# Altium integrated library TI Amplifiers and Linear Special Function Amplifier.IntLib: 708 symbols (part 41 of 47)
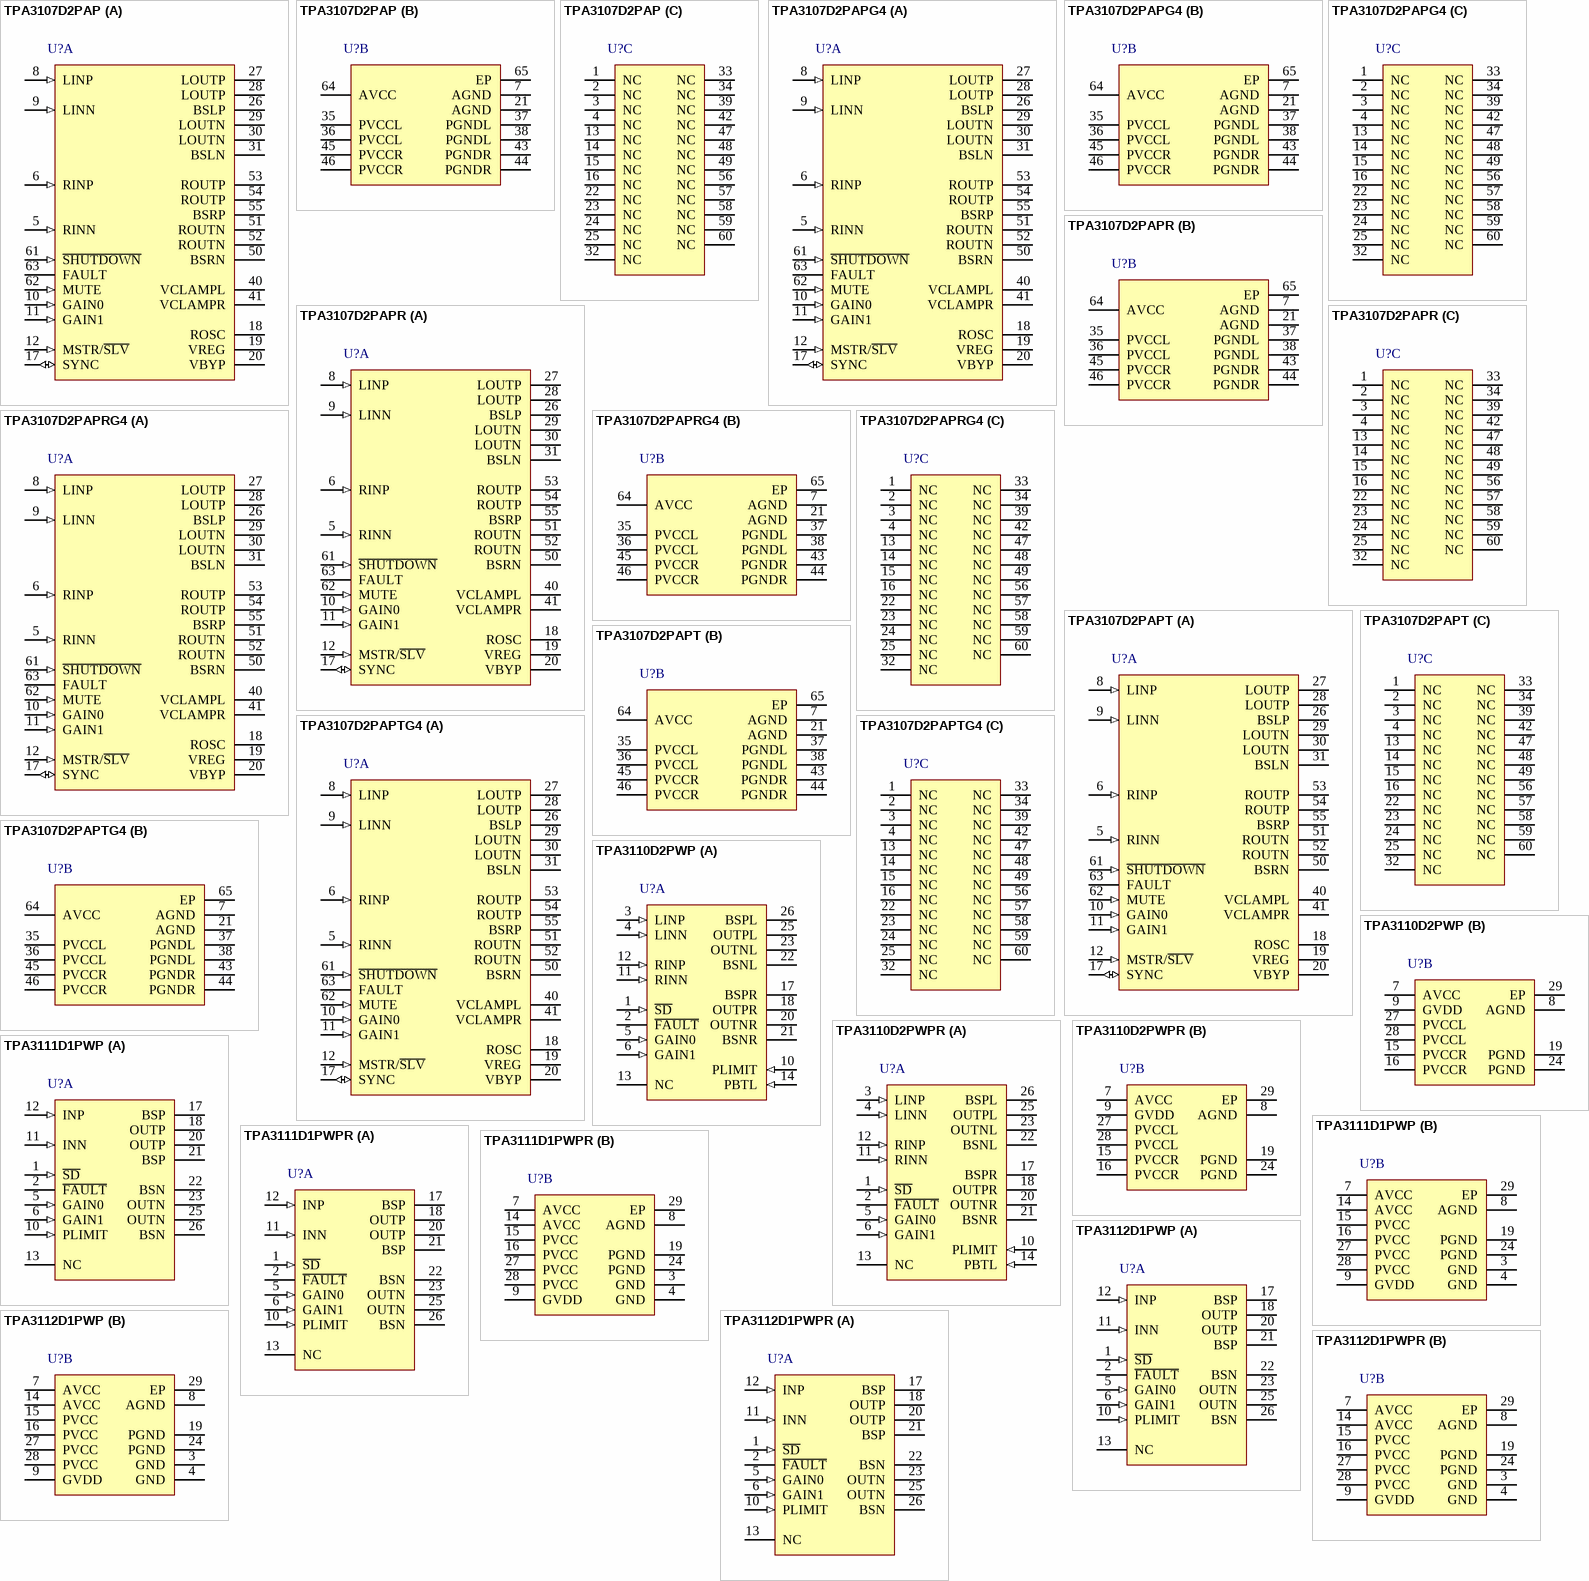
[diagram p79: symbols TPA3107D2PAP to TPA3112D1PWPR]

## TPA3112D1PWP
designator U?
25 W Filter-Free Mono Class-D Audio Amplifier with SpeakerGuard(TM), -40 to 85 degC, 28-pin SOP (PWP28), Green (RoHS & no Sb/Br); Manufacturer: Texas Instruments; PartNumber: TPA3112D1PWP; Analog Supply Max [V]: 26; Analog Supply Min [V]: 8; Input Type: Analog; Max. Number of Speaker Outputs: 1; SubFamily: Mid/High-Power Amplifier; DatasheetVersion: SLOS654C; PackageVersion: 4073225-6/I, 05/2011; PackageReference: PWP28-5720X1950TP; PackageDescription: 28-Pin Plastic Small Outline, Body 4.4 x 9.7 mm, Pitch 0.65 mm; Supplier 1: Digi-Key; Supplier Part Number 1: 296-25242-5-ND; Supplier 2: Farnell; Supplier Part Number 2: 2112567; Supplier 3: Newark; Supplier Part Number 3: 32R7817; Supplier 4: Mouser; Supplier Part Number 4: 595-TPA3112D1PWP; Eco-Plan: Green (RoHS & no Sb/Br); Power Stage Supply Min(V): 8; Mounting Technology: Surface Mount; Code_JEDEC: MO-153; ComponentLink1Description: Manufacturer URL; ComponentLink1URL: http://www.ti.com/; ComponentLink2Description: Datasheet; ComponentLink2URL: http://www.ti.com/general/docs/lit/getliterature.tsp?genericPartNumber=TPA3112D1&fileType=pdf; ComponentLink3Description: Package Specification; ComponentLink3URL: http://www.ti.com/litv/pdf/mpds373
footprint TI-PWP28-5720X1950TP_N (SOP, 28-Leads, Body 9.8x4.5mm, Pitch 0.65mm, Thermal Pad 6.17x2.4mm, IPC Medium Density)
footprint TI-PWP28-5720X1950TP_L (SOP, 28-Leads, Body 9.8x4.5mm, Pitch 0.65mm, Thermal Pad 6.17x2.4mm, IPC High Density)
footprint TI-PWP28-5720X1950TP_M (SOP, 28-Leads, Body 9.8x4.5mm, Pitch 0.65mm, Thermal Pad 6.17x2.4mm, IPC Low Density)
part A pins: 1 ~{SD} (in) "Shutdown logic input for audio amp(LOW = outputs Hi-Z, HIGH = outputs enabled). TTL logic levels with compliance to AVCC.", 2 ~{FAULT} (oc) "Open drain output used to display short circuit or dc detect fault status. Voltage compliant to AVCC. Short circuit faults can be set to auto-recovery by connecting F\A\U\L\T\ pin to S\D\ pin. Otherwise bothe short circuit (See Datasheet)", 5 GAIN0 (in) "Gain select least significant bit. TTL logic levels with compliance to AVCC.", 6 GAIN1 (in) "Gain select most significant bit. TTL logic levels with compliance to AVCC.", 10 PLIMIT (in) "Power limit level adjust. Connect directly to GVDD pin for no power limiting. Add a 1uF cap to ground at this pin.", 11 INN (in) "Negative audio input. Biased at 3V.", 12 INP (in) "Positive audio input. Biased at 3V.", 13 NC "Not connected", 17 BSP "Bootstrap I/O for positive high-side FET.", 18 OUTP (hiz) "Class-D H-bridge positive output.", 20 OUTP (hiz) "Class-D H-bridge positive output.", 21 BSP "Bootstrap I/O for positive high-side FET.", 22 BSN "Bootstrap I/O for negative high-side FET.", 23 OUTN (hiz) "Class-D H-bridge negative output.", 25 OUTN (hiz) "Class-D H-bridge negative output.", 26 BSN "Bootstrap I/O for negative high-side FET."
part B pins: 3 GND (power) "Connect to local ground", 4 GND (power) "Connect to local ground", 7 AVCC (power) "Analog supply.", 8 AGND (power) "Analog supply ground. Connect to the thermal pad.", 9 GVDD (power) "High-side FET gate drive supply. Nominal voltage is 7V. May also be used as supply for PLILMIT divider. Add a 1uF cap to ground at this pin.", 14 AVCC (power) "Connect AVCC supply to this pin", 15 PVCC (power) "Power supply for H-bridge. PVCC pins are also connected internally.", 16 PVCC (power) "Power supply for H-bridge. PVCC pins are also connected internally.", 19 PGND (power) "Power ground for the H-bridges.", 24 PGND (power) "Power ground for the H-bridges.", 27 PVCC (power) "Power supply for H-bridge. PVCC pins are also connected internally.", 28 PVCC (power) "Power supply for H-bridge. PVCC pins are also connected internally.", 29 EP (power)

## TPA3112D1PWPR
designator U?
25 W Filter-Free Mono Class-D Audio Amplifier with SpeakerGuard(TM), -40 to 85 degC, 28-pin SOP (PWP28), Green (RoHS & no Sb/Br); Manufacturer: Texas Instruments; PartNumber: TPA3112D1PWPR; Analog Supply Max [V]: 26; Analog Supply Min [V]: 8; Input Type: Analog; Max. Number of Speaker Outputs: 1; SubFamily: Mid/High-Power Amplifier; DatasheetVersion: SLOS654C; PackageVersion: 4073225-6/I, 05/2011; PackageReference: PWP28-5720X1950TP; PackageDescription: 28-Pin Plastic Small Outline, Body 4.4 x 9.7 mm, Pitch 0.65 mm; Supplier 1: Digi-Key; Supplier Part Number 1: 296-25158-2-ND; Supplier 2: Digi-Key; Supplier Part Number 2: 296-25158-1-ND; Supplier 3: Digi-Key; Supplier Part Number 3: 296-25158-6-ND; Supplier 4: Newark; Supplier Part Number 4: 50R8088; Supplier 5: Mouser; Supplier Part Number 5: 595-TPA3112D1PWPR; Eco-Plan: Green (RoHS & no Sb/Br); Power Stage Supply Min(V): 8; Mounting Technology: Surface Mount; Code_JEDEC: MO-153; ComponentLink1Description: Manufacturer URL; ComponentLink1URL: http://www.ti.com/; ComponentLink2Description: Datasheet; ComponentLink2URL: http://www.ti.com/general/docs/lit/getliterature.tsp?genericPartNumber=TPA3112D1&fileType=pdf; ComponentLink3Description: Package Specification; ComponentLink3URL: http://www.ti.com/litv/pdf/mpds373
footprint TI-PWP28-5720X1950TP_N (SOP, 28-Leads, Body 9.8x4.5mm, Pitch 0.65mm, Thermal Pad 6.17x2.4mm, IPC Medium Density)
footprint TI-PWP28-5720X1950TP_L (SOP, 28-Leads, Body 9.8x4.5mm, Pitch 0.65mm, Thermal Pad 6.17x2.4mm, IPC High Density)
footprint TI-PWP28-5720X1950TP_M (SOP, 28-Leads, Body 9.8x4.5mm, Pitch 0.65mm, Thermal Pad 6.17x2.4mm, IPC Low Density)
part A pins: 1 ~{SD} (in) "Shutdown logic input for audio amp(LOW = outputs Hi-Z, HIGH = outputs enabled). TTL logic levels with compliance to AVCC.", 2 ~{FAULT} (oc) "Open drain output used to display short circuit or dc detect fault status. Voltage compliant to AVCC. Short circuit faults can be set to auto-recovery by connecting F\A\U\L\T\ pin to S\D\ pin. Otherwise bothe short circuit (See Datasheet)", 5 GAIN0 (in) "Gain select least significant bit. TTL logic levels with compliance to AVCC.", 6 GAIN1 (in) "Gain select most significant bit. TTL logic levels with compliance to AVCC.", 10 PLIMIT (in) "Power limit level adjust. Connect directly to GVDD pin for no power limiting. Add a 1uF cap to ground at this pin.", 11 INN (in) "Negative audio input. Biased at 3V.", 12 INP (in) "Positive audio input. Biased at 3V.", 13 NC "Not connected", 17 BSP "Bootstrap I/O for positive high-side FET.", 18 OUTP (hiz) "Class-D H-bridge positive output.", 20 OUTP (hiz) "Class-D H-bridge positive output.", 21 BSP "Bootstrap I/O for positive high-side FET.", 22 BSN "Bootstrap I/O for negative high-side FET.", 23 OUTN (hiz) "Class-D H-bridge negative output.", 25 OUTN (hiz) "Class-D H-bridge negative output.", 26 BSN "Bootstrap I/O for negative high-side FET."
part B pins: 3 GND (power) "Connect to local ground", 4 GND (power) "Connect to local ground", 7 AVCC (power) "Analog supply.", 8 AGND (power) "Analog supply ground. Connect to the thermal pad.", 9 GVDD (power) "High-side FET gate drive supply. Nominal voltage is 7V. May also be used as supply for PLILMIT divider. Add a 1uF cap to ground at this pin.", 14 AVCC (power) "Connect AVCC supply to this pin", 15 PVCC (power) "Power supply for H-bridge. PVCC pins are also connected internally.", 16 PVCC (power) "Power supply for H-bridge. PVCC pins are also connected internally.", 19 PGND (power) "Power ground for the H-bridges.", 24 PGND (power) "Power ground for the H-bridges.", 27 PVCC (power) "Power supply for H-bridge. PVCC pins are also connected internally.", 28 PVCC (power) "Power supply for H-bridge. PVCC pins are also connected internally.", 29 EP (power)

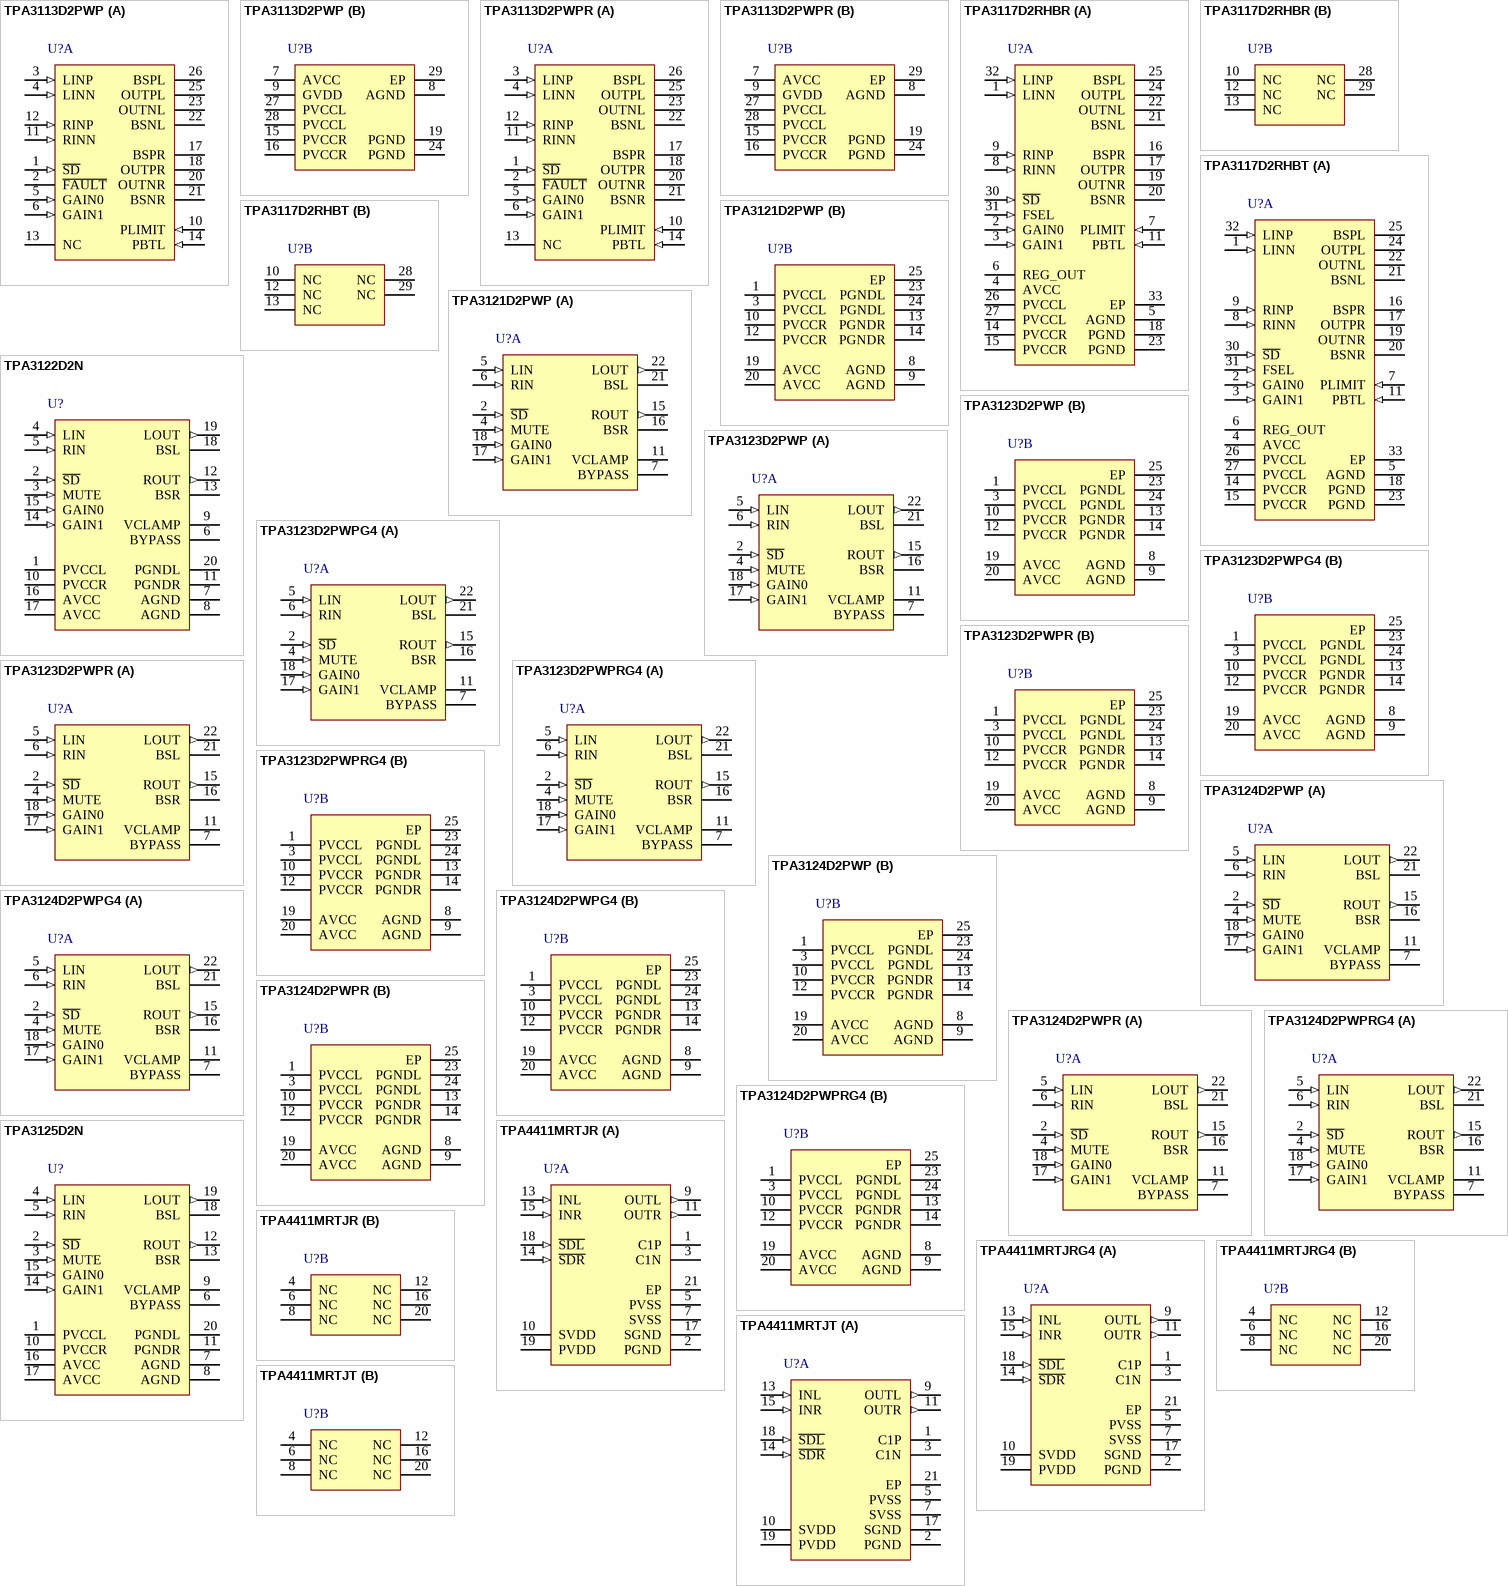
[diagram p35: symbols TPA3113D2PWP to TPA4411MRTJT]

## TPA3113D2PWP
designator U?
6 W Stereo Class-D Audio Power Amplifier with SpeakerGuard(TM), -40 to 85 degC, 28-pin SOP (PWP28), Green (RoHS & no Sb/Br); Manufacturer: Texas Instruments; PartNumber: TPA3113D2PWP; Analog Supply Max [V]: 26; Analog Supply Min [V]: 8; Input Type: Analog; Max. Number of Speaker Outputs: 2; SubFamily: Mid/High-Power Amplifier; DatasheetVersion: SLOS650E; PackageVersion: 4073225-6/I, 05/2011; PackageReference: PWP28-5720X1950TP; PackageDescription: 28-Pin Plastic Small Outline, Body 4.4 x 9.7 mm, Pitch 0.65 mm; Supplier 1: Digi-Key; Supplier Part Number 1: 296-25127-5-ND; Supplier 2: Farnell; Supplier Part Number 2: 1762987; Supplier 3: Newark; Supplier Part Number 3: 26R5218; Supplier 4: Mouser; Supplier Part Number 4: 595-TPA3113D2PWP; Eco-Plan: Green (RoHS & no Sb/Br); Power Stage Supply Min(V): 8; Mounting Technology: Surface Mount; Code_JEDEC: MO-153; ComponentLink1Description: Manufacturer URL; ComponentLink1URL: http://www.ti.com/; ComponentLink2Description: Datasheet; ComponentLink2URL: http://www.ti.com/general/docs/lit/getliterature.tsp?genericPartNumber=TPA3113D2&fileType=pdf; ComponentLink3Description: Package Specification; ComponentLink3URL: http://www.ti.com/litv/pdf/mpds373
footprint TI-PWP28-5720X1950TP_N (SOP, 28-Leads, Body 9.8x4.5mm, Pitch 0.65mm, Thermal Pad 6.17x2.4mm, IPC Medium Density)
footprint TI-PWP28-5720X1950TP_L (SOP, 28-Leads, Body 9.8x4.5mm, Pitch 0.65mm, Thermal Pad 6.17x2.4mm, IPC High Density)
footprint TI-PWP28-5720X1950TP_M (SOP, 28-Leads, Body 9.8x4.5mm, Pitch 0.65mm, Thermal Pad 6.17x2.4mm, IPC Low Density)
part A pins: 1 ~{SD} (in) "Shutdown logic input for audio amp (LOW = outputs Hi-Z, HIGH = outputs enabled). TTL logic levels with compliance to AVCC.", 2 ~{FAULT} (oc) "Open drain output used to display short circuit or dc detect fault status. Voltage compliant to AVCC. Short circuit faults can be set to auto-recovery by connecting F\A\U\L\T\ pin to S\D\ pin. Otherwise, both short circuit (See Datasheet)", 3 LINP (in) "Positive audio input for left channel. Biased at 3V.", 4 LINN (in) "Negative audio input for left channel. Biased at 3V.", 5 GAIN0 (in) "Gain select least significant bit. TTL logic levels with compliance to AVCC.", 6 GAIN1 (in) "Gain select most significant bit. TTL logic levels with compliance to AVCC.", 10 PLIMIT (in) "Power limit level adjust. Connect a resistor divider from GVDD to GND to set power limit. Connect directly to GVDD for no power limit", 11 RINN (in) "Negative audio input for right channel. Biased at 3V.", 12 RINP (in) "Positive audio input for right channel. Biased at 3V.", 13 NC "Not connected", 14 PBTL (in) "Parallel BTL mode switch", 17 BSPR "Bootstrap I/O for right channel, positive high-side FET.", 18 OUTPR (hiz) "Class-D H-bridge positive output for right channel.", 20 OUTNR (hiz) "Class-D H-bridge negative output for right channel.", 21 BSNR "Bootstrap I/O for right channel, negative high-side FET.", 22 BSNL "Bootstrap I/O for left channel, negative high-side FET.", 23 OUTNL (hiz) "Class-D H-bridge negative output for left channel.", 25 OUTPL (hiz) "Class-D H-bridge positive output for left channel.", 26 BSPL "Bootstrap I/O for left channel, positive high-side FET."
part B pins: 7 AVCC (power) "Analog supply", 8 AGND (power) "Analog signal ground. Connect to the thermal pad.", 9 GVDD (power) "High-side FET gate drive supply. Nominal voltage is 7V. Also should be used as supply for PLIMIT function", 15 PVCCR (power) "Power supply for right channel H-bridge. Right channel and left channel power supply inputs are connect internally", 16 PVCCR (power) "Power supply for right channel H-bridge. Right channel and left channel power supply inputs are connect internally.", 19 PGND (power) "Power ground for the H-bridges.", 24 PGND (power) "Power ground for the H-bridges.", 27 PVCCL (power) "Power supply for left channel H-bridge. Right channel and left channel power supply inputs are connect internally", 28 PVCCL (power) "Power supply for left channel H-bridge. Right channel and left channel power supply inputs are connect internally", 29 EP (power)

## TPA3113D2PWPR
designator U?
6 W Stereo Class-D Audio Power Amplifier with SpeakerGuard(TM), -40 to 85 degC, 28-pin SOP (PWP28), Green (RoHS & no Sb/Br); Manufacturer: Texas Instruments; PartNumber: TPA3113D2PWPR; Analog Supply Max [V]: 26; Analog Supply Min [V]: 8; Input Type: Analog; Max. Number of Speaker Outputs: 2; SubFamily: Mid/High-Power Amplifier; DatasheetVersion: SLOS650E; PackageVersion: 4073225-6/I, 05/2011; PackageReference: PWP28-5720X1950TP; PackageDescription: 28-Pin Plastic Small Outline, Body 4.4 x 9.7 mm, Pitch 0.65 mm; Supplier 1: Digi-Key; Supplier Part Number 1: 296-25122-2-ND; Supplier 2: Digi-Key; Supplier Part Number 2: 296-25122-1-ND; Supplier 3: Digi-Key; Supplier Part Number 3: 296-25122-6-ND; Supplier 4: Newark; Supplier Part Number 4: 50R8089; Supplier 5: Mouser; Supplier Part Number 5: 595-TPA3113D2PWPR; Eco-Plan: Green (RoHS & no Sb/Br); Power Stage Supply Min(V): 8; Mounting Technology: Surface Mount; Code_JEDEC: MO-153; ComponentLink1Description: Manufacturer URL; ComponentLink1URL: http://www.ti.com/; ComponentLink2Description: Datasheet; ComponentLink2URL: http://www.ti.com/general/docs/lit/getliterature.tsp?genericPartNumber=TPA3113D2&fileType=pdf; ComponentLink3Description: Package Specification; ComponentLink3URL: http://www.ti.com/litv/pdf/mpds373
footprint TI-PWP28-5720X1950TP_N (SOP, 28-Leads, Body 9.8x4.5mm, Pitch 0.65mm, Thermal Pad 6.17x2.4mm, IPC Medium Density)
footprint TI-PWP28-5720X1950TP_L (SOP, 28-Leads, Body 9.8x4.5mm, Pitch 0.65mm, Thermal Pad 6.17x2.4mm, IPC High Density)
footprint TI-PWP28-5720X1950TP_M (SOP, 28-Leads, Body 9.8x4.5mm, Pitch 0.65mm, Thermal Pad 6.17x2.4mm, IPC Low Density)
part A pins: 1 ~{SD} (in) "Shutdown logic input for audio amp (LOW = outputs Hi-Z, HIGH = outputs enabled). TTL logic levels with compliance to AVCC.", 2 ~{FAULT} (oc) "Open drain output used to display short circuit or dc detect fault status. Voltage compliant to AVCC. Short circuit faults can be set to auto-recovery by connecting F\A\U\L\T\ pin to S\D\ pin. Otherwise, both short circuit (See Datasheet)", 3 LINP (in) "Positive audio input for left channel. Biased at 3V.", 4 LINN (in) "Negative audio input for left channel. Biased at 3V.", 5 GAIN0 (in) "Gain select least significant bit. TTL logic levels with compliance to AVCC.", 6 GAIN1 (in) "Gain select most significant bit. TTL logic levels with compliance to AVCC.", 10 PLIMIT (in) "Power limit level adjust. Connect a resistor divider from GVDD to GND to set power limit. Connect directly to GVDD for no power limit", 11 RINN (in) "Negative audio input for right channel. Biased at 3V.", 12 RINP (in) "Positive audio input for right channel. Biased at 3V.", 13 NC "Not connected", 14 PBTL (in) "Parallel BTL mode switch", 17 BSPR "Bootstrap I/O for right channel, positive high-side FET.", 18 OUTPR (hiz) "Class-D H-bridge positive output for right channel.", 20 OUTNR (hiz) "Class-D H-bridge negative output for right channel.", 21 BSNR "Bootstrap I/O for right channel, negative high-side FET.", 22 BSNL "Bootstrap I/O for left channel, negative high-side FET.", 23 OUTNL (hiz) "Class-D H-bridge negative output for left channel.", 25 OUTPL (hiz) "Class-D H-bridge positive output for left channel.", 26 BSPL "Bootstrap I/O for left channel, positive high-side FET."
part B pins: 7 AVCC (power) "Analog supply", 8 AGND (power) "Analog signal ground. Connect to the thermal pad.", 9 GVDD (power) "High-side FET gate drive supply. Nominal voltage is 7V. Also should be used as supply for PLIMIT function", 15 PVCCR (power) "Power supply for right channel H-bridge. Right channel and left channel power supply inputs are connect internally", 16 PVCCR (power) "Power supply for right channel H-bridge. Right channel and left channel power supply inputs are connect internally.", 19 PGND (power) "Power ground for the H-bridges.", 24 PGND (power) "Power ground for the H-bridges.", 27 PVCCL (power) "Power supply for left channel H-bridge. Right channel and left channel power supply inputs are connect internally", 28 PVCCL (power) "Power supply for left channel H-bridge. Right channel and left channel power supply inputs are connect internally", 29 EP (power)

## TPA3117D2RHBR
designator U?
15 W Filter-Free Stereo Class-D Amplifier, -40 to 85 degC, 32-pin QFN (RHB32), Green (RoHS & no Sb/Br); Manufacturer: Texas Instruments; PartNumber: TPA3117D2RHBR; Analog Supply Max [V]: 26; Analog Supply Min [V]: 8; Input Type: Analog; Max. Number of Speaker Outputs: 2; SubFamily: Mid/High-Power Amplifier; DatasheetVersion: SLOS672; PackageVersion: 4204326/D, 06/2011; PackageReference: RHB32-3450X3450TP; PackageDescription: 32-Pin Plastic Flat Pack, Body 5 x 5 mm, Pitch 0.5 mm; Supplier 1: Digi-Key; Supplier Part Number 1: TPA3117D2RHBR-ND; Supplier 2: Mouser; Supplier Part Number 2: 595-TPA3117D2RHBR; Eco-Plan: Green (RoHS & no Sb/Br); Power Stage Supply Min(V): 8; Mounting Technology: Surface Mount; Code_JEDEC: MO-220; ComponentLink1Description: Manufacturer URL; ComponentLink1URL: http://www.ti.com/; ComponentLink2Description: Datasheet; ComponentLink2URL: http://www.ti.com/general/docs/lit/getliterature.tsp?genericPartNumber=TPA3117D2&fileType=pdf; ComponentLink3Description: Package Specification; ComponentLink3URL: http://www.ti.com/lit/ml/mpqf130c/mpqf130c.pdf
footprint TI-RHB32-3450X3450TP_V (QFN, 32-Leads, Body 5x5mm, Pitch 0.5mm, Thermal Pad 3.45x3.45mm)
part A pins: 1 LINN (in) "Negative audio input for left channel. Biased at 3V.", 2 GAIN0 (in) "Gain select least significant bit. TTL logic levels with compliance to AVCC.", 3 GAIN1 (in) "Gain select most significant bit. TTL logic levels with compliance to AVCC.", 4 AVCC (power) "Analog supply", 5 AGND (power) "Analog signal ground. Connect to the thermal pad.", 6 REG_OUT (power) "5V regulated output. Connect 2.2uF to AGND after the series 10 ohm resistor.", 7 PLIMIT (in) "Power limit level adjust. Connect a resistor divider from REG_OUT to AGND to set power limit. Connect directly to REG_OUT for no power limit.", 8 RINN (in) "Negative audio input for right channel. Biased at 3V.", 9 RINP (in) "Positive audio input for right channel. Biased at 3V.", 11 PBTL (in) "Parallel BTL mode switch (low = BTL mode, high = PBTL mode)", 14 PVCCR (power) "Power supply for right channel H-bridge. Right channel and left channel power supply inputs are connected internally. PVCCR and PVCCL must be connected together on the PCB.", 15 PVCCR (power) "Power supply for right channel H-bridge. Right channel and left channel power supply inputs are connected internally. PVCCR and PVCCL must be connected together on the PCB.", 16 BSPR "Bootstrap I/O for right channel, positive high-side FET.", 17 OUTPR (hiz) "Class-D H-bridge positive output for right channel.", 18 PGND (power) "Power ground for the H-bridges.", 19 OUTNR (hiz) "Class-D H-bridge negative output for right channel.", 20 BSNR "Bootstrap I/O for right channel, negative high-side FET.", 21 BSNL "Bootstrap I/O for left channel, negative high-side FET.", 22 OUTNL (hiz) "Class-D H-bridge negative output for left channel.", 23 PGND (power) "Power ground for the H-bridges.", 24 OUTPL (hiz) "Class-D H-bridge positive output for left channel.", 25 BSPL "Bootstrap I/O for left channel, positive high-side FET.", 26 PVCCL (power) "Power supply for left channel H-bridge. Right channel and left channel power supply inputs are connected internally. PVCCR and PVCCL must be connected together on the PCB.", 27 PVCCL (power) "Power supply for left channel H-bridge. Right channel and left channel power supply inputs are connected internally. PVCCR and PVCCL must be connected together on the PCB.", 30 ~{SD} (in) "Shutdown logic input for audio amp (LOW = outputs Hi-Z, HIGH = outputs enabled). TTL logic levels with compliance to AVCC.", 31 FSEL (in) "Frequency select input pin (low = 300kHz, high = 400kHz)", 32 LINP (in) "Positive audio input for left channel. Biased at 3V.", 33 EP (power)
part B pins: 10 NC "Not connected", 12 NC "Not connected", 13 NC "Not connected", 28 NC "Not connected", 29 NC "Not connected"

## TPA3117D2RHBT
designator U?
15 W Filter-Free Stereo Class-D Amplifier, -40 to 85 degC, 32-pin QFN (RHB32), Green (RoHS & no Sb/Br); Manufacturer: Texas Instruments; PartNumber: TPA3117D2RHBT; Analog Supply Max [V]: 26; Analog Supply Min [V]: 8; Input Type: Analog; Max. Number of Speaker Outputs: 2; SubFamily: Mid/High-Power Amplifier; DatasheetVersion: SLOS672; PackageVersion: 4204326/D, 06/2011; PackageReference: RHB32-3450X3450TP; PackageDescription: 32-Pin Plastic Flat Pack, Body 5 x 5 mm, Pitch 0.5 mm; Supplier 1: Digi-Key; Supplier Part Number 1: 296-27938-2-ND; Supplier 2: Digi-Key; Supplier Part Number 2: 296-27938-1-ND; Supplier 3: Digi-Key; Supplier Part Number 3: 296-27938-6-ND; Supplier 4: Newark; Supplier Part Number 4: 13T5936; Supplier 5: Mouser; Supplier Part Number 5: 595-TPA3117D2RHBT; Eco-Plan: Green (RoHS & no Sb/Br); Power Stage Supply Min(V): 8; Mounting Technology: Surface Mount; Code_JEDEC: MO-220; ComponentLink1Description: Manufacturer URL; ComponentLink1URL: http://www.ti.com/; ComponentLink2Description: Datasheet; ComponentLink2URL: http://www.ti.com/general/docs/lit/getliterature.tsp?genericPartNumber=TPA3117D2&fileType=pdf; ComponentLink3Description: Package Specification; ComponentLink3URL: http://www.ti.com/lit/ml/mpqf130c/mpqf130c.pdf
footprint TI-RHB32-3450X3450TP_V (QFN, 32-Leads, Body 5x5mm, Pitch 0.5mm, Thermal Pad 3.45x3.45mm)
part A pins: 1 LINN (in) "Negative audio input for left channel. Biased at 3V.", 2 GAIN0 (in) "Gain select least significant bit. TTL logic levels with compliance to AVCC.", 3 GAIN1 (in) "Gain select most significant bit. TTL logic levels with compliance to AVCC.", 4 AVCC (power) "Analog supply", 5 AGND (power) "Analog signal ground. Connect to the thermal pad.", 6 REG_OUT (power) "5V regulated output. Connect 2.2uF to AGND after the series 10 ohm resistor.", 7 PLIMIT (in) "Power limit level adjust. Connect a resistor divider from REG_OUT to AGND to set power limit. Connect directly to REG_OUT for no power limit.", 8 RINN (in) "Negative audio input for right channel. Biased at 3V.", 9 RINP (in) "Positive audio input for right channel. Biased at 3V.", 11 PBTL (in) "Parallel BTL mode switch (low = BTL mode, high = PBTL mode)", 14 PVCCR (power) "Power supply for right channel H-bridge. Right channel and left channel power supply inputs are connected internally. PVCCR and PVCCL must be connected together on the PCB.", 15 PVCCR (power) "Power supply for right channel H-bridge. Right channel and left channel power supply inputs are connected internally. PVCCR and PVCCL must be connected together on the PCB.", 16 BSPR "Bootstrap I/O for right channel, positive high-side FET.", 17 OUTPR (hiz) "Class-D H-bridge positive output for right channel.", 18 PGND (power) "Power ground for the H-bridges.", 19 OUTNR (hiz) "Class-D H-bridge negative output for right channel.", 20 BSNR "Bootstrap I/O for right channel, negative high-side FET.", 21 BSNL "Bootstrap I/O for left channel, negative high-side FET.", 22 OUTNL (hiz) "Class-D H-bridge negative output for left channel.", 23 PGND (power) "Power ground for the H-bridges.", 24 OUTPL (hiz) "Class-D H-bridge positive output for left channel.", 25 BSPL "Bootstrap I/O for left channel, positive high-side FET.", 26 PVCCL (power) "Power supply for left channel H-bridge. Right channel and left channel power supply inputs are connected internally. PVCCR and PVCCL must be connected together on the PCB.", 27 PVCCL (power) "Power supply for left channel H-bridge. Right channel and left channel power supply inputs are connected internally. PVCCR and PVCCL must be connected together on the PCB.", 30 ~{SD} (in) "Shutdown logic input for audio amp (LOW = outputs Hi-Z, HIGH = outputs enabled). TTL logic levels with compliance to AVCC.", 31 FSEL (in) "Frequency select input pin (low = 300kHz, high = 400kHz)", 32 LINP (in) "Positive audio input for left channel. Biased at 3V.", 33 EP (power)
part B pins: 10 NC "Not connected", 12 NC "Not connected", 13 NC "Not connected", 28 NC "Not connected", 29 NC "Not connected"

## TPA3121D2PWP
designator U?
15 W Stereo Class-D Audio Power Amplifier with SE Outputs, -40 to 85 degC, 24-pin SOP (PWP24), Green (RoHS & no Sb/Br); Manufacturer: Texas Instruments; PartNumber: TPA3121D2PWP; Analog Supply Max [V]: 26; Analog Supply Min [V]: 10; Input Type: Analog; Max. Number of Speaker Outputs: 2; SubFamily: Mid/High-Power Amplifier; DatasheetVersion: SLOS537A; PackageVersion: 4073225-5/I, 05/2011; PackageReference: PWP24-4420X1950TP; PackageDescription: 24-Pin Plastic Small Outline, Body 4.4 x 7.8 mm, Pitch 0.65 mm; Supplier 1: Digi-Key; Supplier Part Number 1: 296-34553-5-ND; Supplier 2: Farnell; Supplier Part Number 2: 1755371; Supplier 3: Newark; Supplier Part Number 3: 50R6878; Supplier 4: Mouser; Supplier Part Number 4: 595-TPA3121D2PWP; Eco-Plan: Green (RoHS & no Sb/Br); Power Stage Supply Min(V): 10; Mounting Technology: Surface Mount; Code_JEDEC: MO-153; ComponentLink1Description: Manufacturer URL; ComponentLink1URL: http://www.ti.com/; ComponentLink2Description: Datasheet; ComponentLink2URL: http://www.ti.com/general/docs/lit/getliterature.tsp?genericPartNumber=TPA3121D2&fileType=pdf; ComponentLink3Description: Package Specification; ComponentLink3URL: http://www.ti.com/lit/ds/symlink/tps65101.pdf
footprint TI-PWP24-4420X1950TP_N (SOP, 24-Leads, Body 7.9x4.5mm, Pitch 0.65mm, Thermal Pad 4.87x2.4mm, IPC Medium Density)
footprint TI-PWP24-4420X1950TP_L (SOP, 24-Leads, Body 7.9x4.5mm, Pitch 0.65mm, Thermal Pad 4.87x2.4mm, IPC High Density)
footprint TI-PWP24-4420X1950TP_M (SOP, 24-Leads, Body 7.9x4.5mm, Pitch 0.65mm, Thermal Pad 4.87x2.4mm, IPC Low Density)
part A pins: 2 ~{SD} (in) "Shutdown signal for IC (low = disabled, high = operational). TTL logic levels with compliance to AVCC", 4 MUTE (in) "Mute signal for quick disable/enable of outputs (high = outputs switch at 50% duty cycle, low = outputs enabled). TTL logic levels with compliance to AVCC", 5 LIN (in) "Audio input for left channel", 6 RIN (in) "Audio input for right channel", 7 BYPASS "Reference for preamplifier inputs. Nominally equal to AVCC/8. Also controls start-up time via external capacitor sizing.", 11 VCLAMP "Internally generated voltage supply for bootstrap capacitors", 15 ROUT (out) "Class-D 1/2-H-bridge negative output for right channel", 16 BSR "Bootstrap I/O for right channel", 17 GAIN1 (in) "Gain select most-significant bit. TTL logic levels with compliance to AVCC", 18 GAIN0 (in) "Gain select least-significant bit. TTL logic levels with compliance to AVCC", 21 BSL "Bootstrap I/O for left channel", 22 LOUT (out) "Class-D 1/2-H-bridge positive output for left channel"
part B pins: 1 PVCCL (power) "Power supply for left-channel H-bridge, not internally connected to PVCCR or AVCC", 3 PVCCL (power) "Power supply for left-channel H-bridge, not internally connected to PVCCR or AVCC", 8 AGND (power) "Analog ground for analog cells in core", 9 AGND (power) "Analog ground for digital/analog cells in core", 10 PVCCR (power) "Power supply for right-channel H-bridge, not connected to PVCCL or AVCC", 12 PVCCR (power) "Power supply for right-channel H-bridge, not connected to PVCCL or AVCC", 13 PGNDR (power) "Power ground for right-channel H-bridge.", 14 PGNDR (power) "Power ground for right-channel H-bridge.", 19 AVCC (power) "High-voltage analog power supply. Not internally connected to PVCCR or PVCCL", 20 AVCC (power) "High-voltage analog power supply. Not internally connected to PVCCR or PVCCL", 23 PGNDL (power) "Power ground for left-channel H-bridge", 24 PGNDL (power) "Power ground for left-channel H-bridge", 25 EP (power) "Connect to ground. Thermal pad should be soldered down on all applications to secure the device properly to the printed wiring board."

## TPA3122D2N
designator U?
15 W Stereo Class-D Audio Power Amplifier with SE Outputs, -40 to 85 degC, 20-pin DIP (N20), Pb-Free (RoHS); Manufacturer: Texas Instruments; PartNumber: TPA3122D2N; Analog Supply Max [V]: 30; Analog Supply Min [V]: 10; Input Type: Analog; Max. Number of Speaker Outputs: 2; SubFamily: Mid/High-Power Amplifier; DatasheetVersion: SLOS527A; PackageVersion: 4040049/E, 12/2002; PackageReference: N20; PackageDescription: 20-Pin Plastic In-Line, Body 25.40 x 6.35 mm, Pitch 2.54 mm; Supplier 1: Digi-Key; Supplier Part Number 1: 296-23375-5-ND; Supplier 2: Farnell; Supplier Part Number 2: 1755372; Supplier 3: Newark; Supplier Part Number 3: 96M4801; Supplier 4: Mouser; Supplier Part Number 4: 595-TPA3122D2N; Eco-Plan: Pb-Free (RoHS); Power Stage Supply Min(V): 10; Mounting Technology: Through Hole; Code_JEDEC: MS-001; ComponentLink1Description: Manufacturer URL; ComponentLink1URL: http://www.ti.com/; ComponentLink2Description: Datasheet; ComponentLink2URL: http://www.ti.com/general/docs/lit/getliterature.tsp?genericPartNumber=TPA3122D2&fileType=pdf; ComponentLink3Description: Package Specification; ComponentLink3URL: http://www.ti.com/lit/ml/mpdi002c/mpdi002c.pdf
footprint TI-N20 (DIP, 20-Leads, Body 25.4x6.35 mm, Pitch 2.54 mm)
pins: 1 PVCCL (power) "Power supply for left channel H-bridge.", 2 ~{SD} (in) "Shutdown signal for IC (low = outputs disabled, high = operational). TTL logic levels with compliance to AVCC.", 3 MUTE (in) "Mute signal for quick disable/enable of outputs (high = outputs switch at 50% duty cycle; low = outputs enabled). TTL logic levels with compliance to AVCC.", 4 LIN (in) "Audio input for left channel.", 5 RIN (in) "Audio input for right channel.", 6 BYPASS "Reference for pre-amplifier inputs. Nominally equal to AVCC/8. Also controls start-up time via external capacitor sizing.", 7 AGND (power) "Analog ground for digital/analog cells in core.", 8 AGND (power) "Analog ground for digital/analog cells in core.", 9 VCLAMP "Internally generated voltage supply for bootstrap capacitors.", 10 PVCCR (power) "Power supply for right channel H-bridge.", 11 PGNDR (power) "Power ground for right channel H-bridge.", 12 ROUT (out) "Class-D H-bridge negative output for right channel.", 13 BSR "Bootstrap input for right channel.", 14 GAIN1 (in) "Gain select most significant bit. TTL logic levels with compliance to AVCC.", 15 GAIN0 (in) "Gain select least significant bit. TTL logic levels with compliance to AVCC.", 16 AVCC (power) "High-voltage analog power supply. Not internally connected to PVCCR or PVCCL", 17 AVCC (power) "High-voltage analog power supply. Not internally connected to PVCCR or PVCCL", 18 BSL "Bootstrap input for left channel.", 19 LOUT (out) "Class-D H-bridge positive output for left channel.", 20 PGNDL (power) "Power ground for left channel H-bridge."

## TPA3123D2PWP
designator U?
25 W Stereo Class-D Audio Power Amplifier with SE Outputs, -40 to 85 degC, 24-pin SOP (PWP24), Green (RoHS & no Sb/Br); Manufacturer: Texas Instruments; PartNumber: TPA3123D2PWP; Analog Supply Max [V]: 30; Analog Supply Min [V]: 10; Input Type: Analog; Max. Number of Speaker Outputs: 2; SubFamily: Mid/High-Power Amplifier; DatasheetVersion: SLOS541C; PackageVersion: 4073225-5/I, 05/2011; PackageReference: PWP24-4820X1950TP; PackageDescription: 24-Pin Plastic Small Outline, Body 4.4 x 7.8 mm, Pitch 0.65 mm; Supplier 1: Digi-Key; Supplier Part Number 1: 296-34554-5-ND; Supplier 2: Farnell; Supplier Part Number 2: 1632099; Supplier 3: Newark; Supplier Part Number 3: 39T5827; Supplier 4: Newark; Supplier Part Number 4: 53M3994; Supplier 5: Mouser; Supplier Part Number 5: 595-TPA3123D2PWP; Eco-Plan: Green (RoHS & no Sb/Br); Power Stage Supply Min(V): 10; Mounting Technology: Surface Mount; Code_JEDEC: MO-153; ComponentLink1Description: Manufacturer URL; ComponentLink1URL: http://www.ti.com/; ComponentLink2Description: Datasheet; ComponentLink2URL: http://www.ti.com/general/docs/lit/getliterature.tsp?genericPartNumber=TPA3123D2&fileType=pdf; ComponentLink3Description: Package Specification; ComponentLink3URL: http://www.ti.com/litv/pdf/mpds372
footprint TI-PWP24-4820X1950TP_N (SOP, 24-Leads, Body 7.8x4.4mm, Pitch 0.65mm, Thermal Pad 4.87x2.4mm, IPC Medium Density)
footprint TI-PWP24-4820X1950TP_L (SOP, 24-Leads, Body 7.8x4.4mm, Pitch 0.65mm, Thermal Pad 4.87x2.4mm, IPC High Density)
footprint TI-PWP24-4820X1950TP_M (SOP, 24-Leads, Body 7.8x4.4mm, Pitch 0.65mm, Thermal Pad 4.87x2.4mm, IPC Low Density)
part A pins: 2 ~{SD} (in) "Shutdown signal for IC (low = disabled, high = operational). TTL logic levels with compliance to AVCC", 4 MUTE (in) "Mute signal for quick disable/enable of outputs (high = outputs switch at 50% duty cycle, low = outputs enabled). TTL logic levels with compliance to AVCC", 5 LIN (in) "Audio input for left channel", 6 RIN (in) "Audio input for right channel", 7 BYPASS "Reference for preamplifier inputs. Nominally equal to AVCC/8. Also controls start-up time via external capacitor sizing.", 11 VCLAMP "Internally generated voltage supply for bootstrap capacitors", 15 ROUT (out) "Class-D 1/2-H-bridge negative output for right channel", 16 BSR "Bootstrap I/O for right channel", 17 GAIN1 (in) "Gain select most-significant bit. TTL logic levels with compliance to AVCC", 18 GAIN0 (in) "Gain select least-significant bit. TTL logic levels with compliance to AVCC", 21 BSL "Bootstrap I/O for left channel", 22 LOUT (out) "Class-D 1/2-H-bridge positive output for left channel"
part B pins: 1 PVCCL (power) "Power supply for left-channel H-bridge, not internally connected to PVCCR or AVCC", 3 PVCCL (power) "Power supply for left-channel H-bridge, not internally connected to PVCCR or AVCC", 8 AGND (power) "Analog ground for analog cells in core", 9 AGND (power) "Analog ground for digital/analog cells in core", 10 PVCCR (power) "Power supply for right-channel H-bridge, not connected to PVCCL or AVCC", 12 PVCCR (power) "Power supply for right-channel H-bridge, not connected to PVCCL or AVCC", 13 PGNDR (power) "Power ground for right-channel H-bridge.", 14 PGNDR (power) "Power ground for right-channel H-bridge.", 19 AVCC (power) "High-voltage analog power supply. Not internally connected to PVCCR or PVCCL", 20 AVCC (power) "High-voltage analog power supply. Not internally connected to PVCCR or PVCCL", 23 PGNDL (power) "Power ground for left-channel H-bridge", 24 PGNDL (power) "Power ground for left-channel H-bridge", 25 EP (power) "Connect to ground. Thermal pad should be soldered down on all applications to secure the device properly to the printed wiring board."

## TPA3123D2PWPG4
designator U?
25 W Stereo Class-D Audio Power Amplifier with SE Outputs, -40 to 85 degC, 24-pin SOP (PWP24), Green (RoHS & no Sb/Br); Manufacturer: Texas Instruments; PartNumber: TPA3123D2PWPG4; Analog Supply Max [V]: 30; Analog Supply Min [V]: 10; Input Type: Analog; Max. Number of Speaker Outputs: 2; SubFamily: Mid/High-Power Amplifier; DatasheetVersion: SLOS541C; PackageVersion: 4073225-5/I, 05/2011; PackageReference: PWP24-4820X1950TP; PackageDescription: 24-Pin Plastic Small Outline, Body 4.4 x 7.8 mm, Pitch 0.65 mm; Supplier 1: Digi-Key; Supplier Part Number 1: TPA3123D2PWPG4-ND; Supplier 2: Newark; Supplier Part Number 2: 53M3995; Supplier 3: Mouser; Supplier Part Number 3: 595-TPA3123D2PWPG4; Eco-Plan: Green (RoHS & no Sb/Br); Power Stage Supply Min(V): 10; Mounting Technology: Surface Mount; Code_JEDEC: MO-153; ComponentLink1Description: Manufacturer URL; ComponentLink1URL: http://www.ti.com/; ComponentLink2Description: Datasheet; ComponentLink2URL: http://www.ti.com/general/docs/lit/getliterature.tsp?genericPartNumber=TPA3123D2&fileType=pdf; ComponentLink3Description: Package Specification; ComponentLink3URL: http://www.ti.com/litv/pdf/mpds372
footprint TI-PWP24-4820X1950TP_N (SOP, 24-Leads, Body 7.8x4.4mm, Pitch 0.65mm, Thermal Pad 4.87x2.4mm, IPC Medium Density)
footprint TI-PWP24-4820X1950TP_L (SOP, 24-Leads, Body 7.8x4.4mm, Pitch 0.65mm, Thermal Pad 4.87x2.4mm, IPC High Density)
footprint TI-PWP24-4820X1950TP_M (SOP, 24-Leads, Body 7.8x4.4mm, Pitch 0.65mm, Thermal Pad 4.87x2.4mm, IPC Low Density)
part A pins: 2 ~{SD} (in) "Shutdown signal for IC (low = disabled, high = operational). TTL logic levels with compliance to AVCC", 4 MUTE (in) "Mute signal for quick disable/enable of outputs (high = outputs switch at 50% duty cycle, low = outputs enabled). TTL logic levels with compliance to AVCC", 5 LIN (in) "Audio input for left channel", 6 RIN (in) "Audio input for right channel", 7 BYPASS "Reference for preamplifier inputs. Nominally equal to AVCC/8. Also controls start-up time via external capacitor sizing.", 11 VCLAMP "Internally generated voltage supply for bootstrap capacitors", 15 ROUT (out) "Class-D 1/2-H-bridge negative output for right channel", 16 BSR "Bootstrap I/O for right channel", 17 GAIN1 (in) "Gain select most-significant bit. TTL logic levels with compliance to AVCC", 18 GAIN0 (in) "Gain select least-significant bit. TTL logic levels with compliance to AVCC", 21 BSL "Bootstrap I/O for left channel", 22 LOUT (out) "Class-D 1/2-H-bridge positive output for left channel"
part B pins: 1 PVCCL (power) "Power supply for left-channel H-bridge, not internally connected to PVCCR or AVCC", 3 PVCCL (power) "Power supply for left-channel H-bridge, not internally connected to PVCCR or AVCC", 8 AGND (power) "Analog ground for analog cells in core", 9 AGND (power) "Analog ground for digital/analog cells in core", 10 PVCCR (power) "Power supply for right-channel H-bridge, not connected to PVCCL or AVCC", 12 PVCCR (power) "Power supply for right-channel H-bridge, not connected to PVCCL or AVCC", 13 PGNDR (power) "Power ground for right-channel H-bridge.", 14 PGNDR (power) "Power ground for right-channel H-bridge.", 19 AVCC (power) "High-voltage analog power supply. Not internally connected to PVCCR or PVCCL", 20 AVCC (power) "High-voltage analog power supply. Not internally connected to PVCCR or PVCCL", 23 PGNDL (power) "Power ground for left-channel H-bridge", 24 PGNDL (power) "Power ground for left-channel H-bridge", 25 EP (power) "Connect to ground. Thermal pad should be soldered down on all applications to secure the device properly to the printed wiring board."

## TPA3123D2PWPR
designator U?
25 W Stereo Class-D Audio Power Amplifier with SE Outputs, -40 to 85 degC, 24-pin SOP (PWP24), Green (RoHS & no Sb/Br); Manufacturer: Texas Instruments; PartNumber: TPA3123D2PWPR; Analog Supply Max [V]: 30; Analog Supply Min [V]: 10; Input Type: Analog; Max. Number of Speaker Outputs: 2; SubFamily: Mid/High-Power Amplifier; DatasheetVersion: SLOS541C; PackageVersion: 4073225-5/I, 05/2011; PackageReference: PWP24-4820X1950TP; PackageDescription: 24-Pin Plastic Small Outline, Body 4.4 x 7.8 mm, Pitch 0.65 mm; Supplier 1: Digi-Key; Supplier Part Number 1: 296-22008-2-ND; Supplier 2: Digi-Key; Supplier Part Number 2: 296-22008-1-ND; Supplier 3: Digi-Key; Supplier Part Number 3: 296-22008-6-ND; Supplier 4: Farnell; Supplier Part Number 4: 2347990; Supplier 5: Newark; Supplier Part Number 5: 86W6302; Supplier 6: Newark; Supplier Part Number 6: 53M3996; Supplier 7: Mouser; Supplier Part Number 7: 595-TPA3123D2PWPR; Eco-Plan: Green (RoHS & no Sb/Br); Power Stage Supply Min(V): 10; Mounting Technology: Surface Mount; Code_JEDEC: MO-153; ComponentLink1Description: Manufacturer URL; ComponentLink1URL: http://www.ti.com/; ComponentLink2Description: Datasheet; ComponentLink2URL: http://www.ti.com/general/docs/lit/getliterature.tsp?genericPartNumber=TPA3123D2&fileType=pdf; ComponentLink3Description: Package Specification; ComponentLink3URL: http://www.ti.com/litv/pdf/mpds372
footprint TI-PWP24-4820X1950TP_N (SOP, 24-Leads, Body 7.8x4.4mm, Pitch 0.65mm, Thermal Pad 4.87x2.4mm, IPC Medium Density)
footprint TI-PWP24-4820X1950TP_L (SOP, 24-Leads, Body 7.8x4.4mm, Pitch 0.65mm, Thermal Pad 4.87x2.4mm, IPC High Density)
footprint TI-PWP24-4820X1950TP_M (SOP, 24-Leads, Body 7.8x4.4mm, Pitch 0.65mm, Thermal Pad 4.87x2.4mm, IPC Low Density)
part A pins: 2 ~{SD} (in) "Shutdown signal for IC (low = disabled, high = operational). TTL logic levels with compliance to AVCC", 4 MUTE (in) "Mute signal for quick disable/enable of outputs (high = outputs switch at 50% duty cycle, low = outputs enabled). TTL logic levels with compliance to AVCC", 5 LIN (in) "Audio input for left channel", 6 RIN (in) "Audio input for right channel", 7 BYPASS "Reference for preamplifier inputs. Nominally equal to AVCC/8. Also controls start-up time via external capacitor sizing.", 11 VCLAMP "Internally generated voltage supply for bootstrap capacitors", 15 ROUT (out) "Class-D 1/2-H-bridge negative output for right channel", 16 BSR "Bootstrap I/O for right channel", 17 GAIN1 (in) "Gain select most-significant bit. TTL logic levels with compliance to AVCC", 18 GAIN0 (in) "Gain select least-significant bit. TTL logic levels with compliance to AVCC", 21 BSL "Bootstrap I/O for left channel", 22 LOUT (out) "Class-D 1/2-H-bridge positive output for left channel"
part B pins: 1 PVCCL (power) "Power supply for left-channel H-bridge, not internally connected to PVCCR or AVCC", 3 PVCCL (power) "Power supply for left-channel H-bridge, not internally connected to PVCCR or AVCC", 8 AGND (power) "Analog ground for analog cells in core", 9 AGND (power) "Analog ground for digital/analog cells in core", 10 PVCCR (power) "Power supply for right-channel H-bridge, not connected to PVCCL or AVCC", 12 PVCCR (power) "Power supply for right-channel H-bridge, not connected to PVCCL or AVCC", 13 PGNDR (power) "Power ground for right-channel H-bridge.", 14 PGNDR (power) "Power ground for right-channel H-bridge.", 19 AVCC (power) "High-voltage analog power supply. Not internally connected to PVCCR or PVCCL", 20 AVCC (power) "High-voltage analog power supply. Not internally connected to PVCCR or PVCCL", 23 PGNDL (power) "Power ground for left-channel H-bridge", 24 PGNDL (power) "Power ground for left-channel H-bridge", 25 EP (power) "Connect to ground. Thermal pad should be soldered down on all applications to secure the device properly to the printed wiring board."

## TPA3123D2PWPRG4
designator U?
25 W Stereo Class-D Audio Power Amplifier with SE Outputs, -40 to 85 degC, 24-pin SOP (PWP24), Green (RoHS & no Sb/Br); Manufacturer: Texas Instruments; PartNumber: TPA3123D2PWPRG4; Analog Supply Max [V]: 30; Analog Supply Min [V]: 10; Input Type: Analog; Max. Number of Speaker Outputs: 2; SubFamily: Mid/High-Power Amplifier; DatasheetVersion: SLOS541C; PackageVersion: 4073225-5/I, 05/2011; PackageReference: PWP24-4820X1950TP; PackageDescription: 24-Pin Plastic Small Outline, Body 4.4 x 7.8 mm, Pitch 0.65 mm; Supplier 1: Digi-Key; Supplier Part Number 1: TPA3123D2PWPRG4-ND; Supplier 2: Newark; Supplier Part Number 2: 53M3997; Supplier 3: Mouser; Supplier Part Number 3: 595-TPA3123D2PWPRG4; Eco-Plan: Green (RoHS & no Sb/Br); Power Stage Supply Min(V): 10; Mounting Technology: Surface Mount; Code_JEDEC: MO-153; ComponentLink1Description: Manufacturer URL; ComponentLink1URL: http://www.ti.com/; ComponentLink2Description: Datasheet; ComponentLink2URL: http://www.ti.com/general/docs/lit/getliterature.tsp?genericPartNumber=TPA3123D2&fileType=pdf; ComponentLink3Description: Package Specification; ComponentLink3URL: http://www.ti.com/litv/pdf/mpds372
footprint TI-PWP24-4820X1950TP_N (SOP, 24-Leads, Body 7.8x4.4mm, Pitch 0.65mm, Thermal Pad 4.87x2.4mm, IPC Medium Density)
footprint TI-PWP24-4820X1950TP_L (SOP, 24-Leads, Body 7.8x4.4mm, Pitch 0.65mm, Thermal Pad 4.87x2.4mm, IPC High Density)
footprint TI-PWP24-4820X1950TP_M (SOP, 24-Leads, Body 7.8x4.4mm, Pitch 0.65mm, Thermal Pad 4.87x2.4mm, IPC Low Density)
part A pins: 2 ~{SD} (in) "Shutdown signal for IC (low = disabled, high = operational). TTL logic levels with compliance to AVCC", 4 MUTE (in) "Mute signal for quick disable/enable of outputs (high = outputs switch at 50% duty cycle, low = outputs enabled). TTL logic levels with compliance to AVCC", 5 LIN (in) "Audio input for left channel", 6 RIN (in) "Audio input for right channel", 7 BYPASS "Reference for preamplifier inputs. Nominally equal to AVCC/8. Also controls start-up time via external capacitor sizing.", 11 VCLAMP "Internally generated voltage supply for bootstrap capacitors", 15 ROUT (out) "Class-D 1/2-H-bridge negative output for right channel", 16 BSR "Bootstrap I/O for right channel", 17 GAIN1 (in) "Gain select most-significant bit. TTL logic levels with compliance to AVCC", 18 GAIN0 (in) "Gain select least-significant bit. TTL logic levels with compliance to AVCC", 21 BSL "Bootstrap I/O for left channel", 22 LOUT (out) "Class-D 1/2-H-bridge positive output for left channel"
part B pins: 1 PVCCL (power) "Power supply for left-channel H-bridge, not internally connected to PVCCR or AVCC", 3 PVCCL (power) "Power supply for left-channel H-bridge, not internally connected to PVCCR or AVCC", 8 AGND (power) "Analog ground for analog cells in core", 9 AGND (power) "Analog ground for digital/analog cells in core", 10 PVCCR (power) "Power supply for right-channel H-bridge, not connected to PVCCL or AVCC", 12 PVCCR (power) "Power supply for right-channel H-bridge, not connected to PVCCL or AVCC", 13 PGNDR (power) "Power ground for right-channel H-bridge.", 14 PGNDR (power) "Power ground for right-channel H-bridge.", 19 AVCC (power) "High-voltage analog power supply. Not internally connected to PVCCR or PVCCL", 20 AVCC (power) "High-voltage analog power supply. Not internally connected to PVCCR or PVCCL", 23 PGNDL (power) "Power ground for left-channel H-bridge", 24 PGNDL (power) "Power ground for left-channel H-bridge", 25 EP (power) "Connect to ground. Thermal pad should be soldered down on all applications to secure the device properly to the printed wiring board."

## TPA3124D2PWP
designator U?
15 W Stereo Class-D Audio Power Amplifier with SE Outputs and Fast Mute Time, -40 to 85 degC, 24-pin SOP (PWP24), Green (RoHS & no Sb/Br); Manufacturer: Texas Instruments; PartNumber: TPA3124D2PWP; Analog Supply Max [V]: 26; Analog Supply Min [V]: 10; Input Type: Analog; Max. Number of Speaker Outputs: 2; SubFamily: Mid/High-Power Amplifier; DatasheetVersion: SLOS578; PackageVersion: 4073225-5/I, 05/2011; PackageReference: PWP24-4820X1950TP; PackageDescription: 24-Pin Plastic Small Outline, Body 4.4 x 7.8 mm, Pitch 0.65 mm; Supplier 1: Digi-Key; Supplier Part Number 1: TPA3124D2PWP-ND; Supplier 2: Mouser; Supplier Part Number 2: 595-TPA3124D2PWP; Eco-Plan: Green (RoHS & no Sb/Br); Power Stage Supply Min(V): 10; Mounting Technology: Surface Mount; Code_JEDEC: MO-153; ComponentLink1Description: Manufacturer URL; ComponentLink1URL: http://www.ti.com/; ComponentLink2Description: Datasheet; ComponentLink2URL: http://www.ti.com/general/docs/lit/getliterature.tsp?genericPartNumber=TPA3124D2&fileType=pdf; ComponentLink3Description: Package Specification; ComponentLink3URL: http://www.ti.com/litv/pdf/mpds372
footprint TI-PWP24-4820X1950TP_N (SOP, 24-Leads, Body 7.8x4.4mm, Pitch 0.65mm, Thermal Pad 4.87x2.4mm, IPC Medium Density)
footprint TI-PWP24-4820X1950TP_L (SOP, 24-Leads, Body 7.8x4.4mm, Pitch 0.65mm, Thermal Pad 4.87x2.4mm, IPC High Density)
footprint TI-PWP24-4820X1950TP_M (SOP, 24-Leads, Body 7.8x4.4mm, Pitch 0.65mm, Thermal Pad 4.87x2.4mm, IPC Low Density)
part A pins: 2 ~{SD} (in) "Shutdown signal for IC (low = disabled, high = operational). TTL logic levels with compliance to AVCC", 4 MUTE (in) "Mute signal for quick disable/enable of outputs (high = outputs switch at 50% duty cycle, low = outputs enabled). TTL logic levels with compliance to AVCC", 5 LIN (in) "Audio input for left channel", 6 RIN (in) "Audio input for right channel", 7 BYPASS "Reference for preamplifier inputs. Nominally equal to AVCC/8. Also controls start-up time via external capacitor sizing.", 11 VCLAMP "Internally generated voltage supply for bootstrap capacitors", 15 ROUT (out) "Class-D 1/2-H-bridge negative output for right channel", 16 BSR "Bootstrap I/O for right channel", 17 GAIN1 (in) "Gain select most-significant bit. TTL logic levels with compliance to AVCC", 18 GAIN0 (in) "Gain select least-significant bit. TTL logic levels with compliance to AVCC", 21 BSL "Bootstrap I/O for left channel", 22 LOUT (out) "Class-D 1/2-H-bridge positive output for left channel"
part B pins: 1 PVCCL (power) "Power supply for left-channel H-bridge, not internally connected to PVCCR or AVCC", 3 PVCCL (power) "Power supply for left-channel H-bridge, not internally connected to PVCCR or AVCC", 8 AGND (power) "Analog ground for analog cells in core", 9 AGND (power) "Analog ground for digital/analog cells in core", 10 PVCCR (power) "Power supply for right-channel H-bridge, not connected to PVCCL or AVCC", 12 PVCCR (power) "Power supply for right-channel H-bridge, not connected to PVCCL or AVCC", 13 PGNDR (power) "Power ground for right-channel H-bridge.", 14 PGNDR (power) "Power ground for right-channel H-bridge.", 19 AVCC (power) "High-voltage analog power supply. Not internally connected to PVCCR or PVCCL", 20 AVCC (power) "High-voltage analog power supply. Not internally connected to PVCCR or PVCCL", 23 PGNDL (power) "Power ground for left-channel H-bridge", 24 PGNDL (power) "Power ground for left-channel H-bridge", 25 EP (power) "Connect to ground. Thermal pad should be soldered down on all applications to secure the device properly to the printed wiring board."